# EAGLE library part STM32F328C8T (library STM32F3xx)
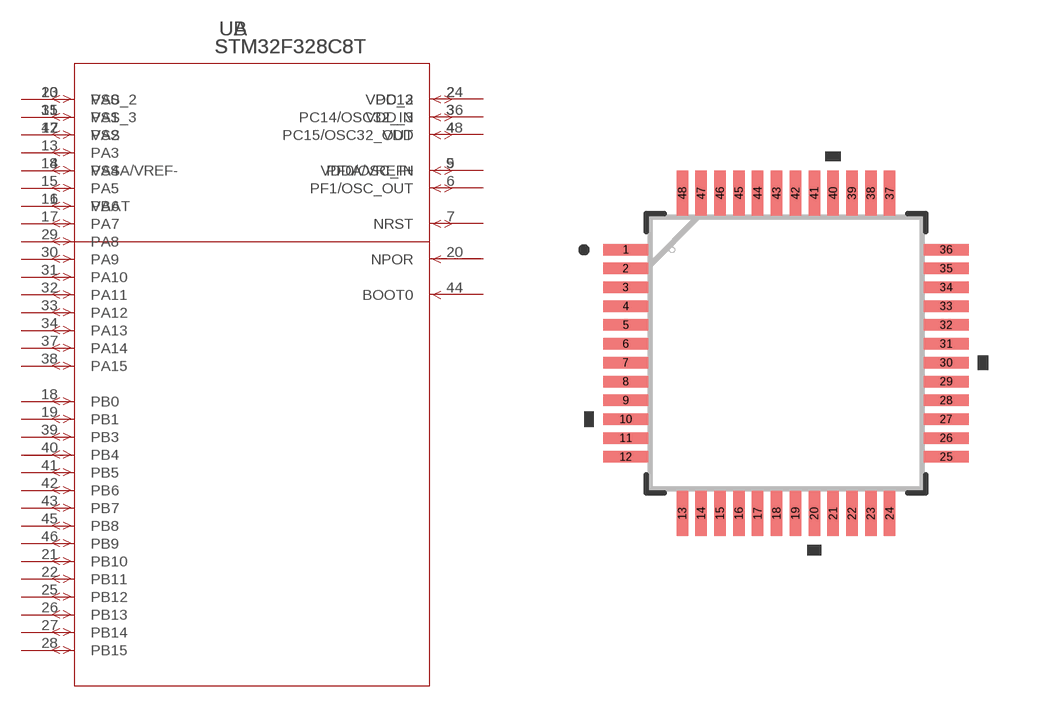
[diagram p18: symbol with the pads of LQFP48-7X7MM; footprint LQFP48-7X7MM]

Designator prefix U; gates A=STM32F328C8T_1 B=STM32F328C8T

## STM32F328C8T (COPYRIGHT: Copyright C 2016 Accelerated Designs. All rights reserved; MANUFACTURER_PART_NUMBER: stm32f328c8t; VENDOR: STMicroelectronics)  [LQFP48-7X7MM]
1  B:VBAT  pwr
2  A:PC13
3  A:PC14/OSC32_IN
4  A:PC15/OSC32_OUT
5  A:PF0/OSC_IN
6  A:PF1/OSC_OUT
7  A:NRST
8  B:VSSA/VREF-  pwr
9  B:VDDA/VREF+  pwr
10  A:PA0
11  A:PA1
12  A:PA2
13  A:PA3
14  A:PA4
15  A:PA5
16  A:PA6
17  A:PA7
18  A:PB0
19  A:PB1
20  A:NPOR  in
21  A:PB10
22  A:PB11
23  B:VSS_2  pwr
24  B:VDD_2  pwr
25  A:PB12
26  A:PB13
27  A:PB14
28  A:PB15
29  A:PA8
30  A:PA9
31  A:PA10
32  A:PA11
33  A:PA12
34  A:PA13
35  B:VSS_3  pwr
36  B:VDD_3  pwr
37  A:PA14
38  A:PA15
39  A:PB3
40  A:PB4
41  A:PB5
42  A:PB6
43  A:PB7
44  A:BOOT0  in
45  A:PB8
46  A:PB9
47  B:VSS  pwr
48  B:VDD  pwr

## Footprint LQFP48-7X7MM (pad centres in mm)
smd 1.194 x 0.305: 1 -4.25,2.75; 2 -4.25,2.25; 3 -4.25,1.75; 4 -4.25,1.25; 5 -4.25,0.75; 6 -4.25,0.25; 7 -4.25,-0.25; 8 -4.25,-0.75; 9 -4.25,-1.25; 10 -4.25,-1.75; 11 -4.25,-2.25; 12 -4.25,-2.75; 25 4.25,-2.75; 26 4.25,-2.25; 27 4.25,-1.75; 28 4.25,-1.25; 29 4.25,-0.75; 30 4.25,-0.25; 31 4.25,0.25; 32 4.25,0.75; 33 4.25,1.25; 34 4.25,1.75; 35 4.25,2.25; 36 4.25,2.75
smd 0.305 x 1.194: 13 -2.75,-4.25; 14 -2.25,-4.25; 15 -1.75,-4.25; 16 -1.25,-4.25; 17 -0.75,-4.25; 18 -0.25,-4.25; 19 0.25,-4.25; 20 0.75,-4.25; 21 1.25,-4.25; 22 1.75,-4.25; 23 2.25,-4.25; 24 2.75,-4.25; 37 2.75,4.25; 38 2.25,4.25; 39 1.75,4.25; 40 1.25,4.25; 41 0.75,4.25; 42 0.25,4.25; 43 -0.25,4.25; 44 -0.75,4.25; 45 -1.25,4.25; 46 -1.75,4.25; 47 -2.25,4.25; 48 -2.75,4.25